# Altium footprint library zynq.PcbLib: 126 footprints (part 8 of 8)
Each footprint in its own frame and in the unit in brackets; x right, y up, seen from the top. Pads: shape width x height; smd on the part's side, far side on the other; paste and mask are expansions set on the pad; w line width, h text height; cw(c..) or ccw(c..) is an arc to the next point about the centre after c.
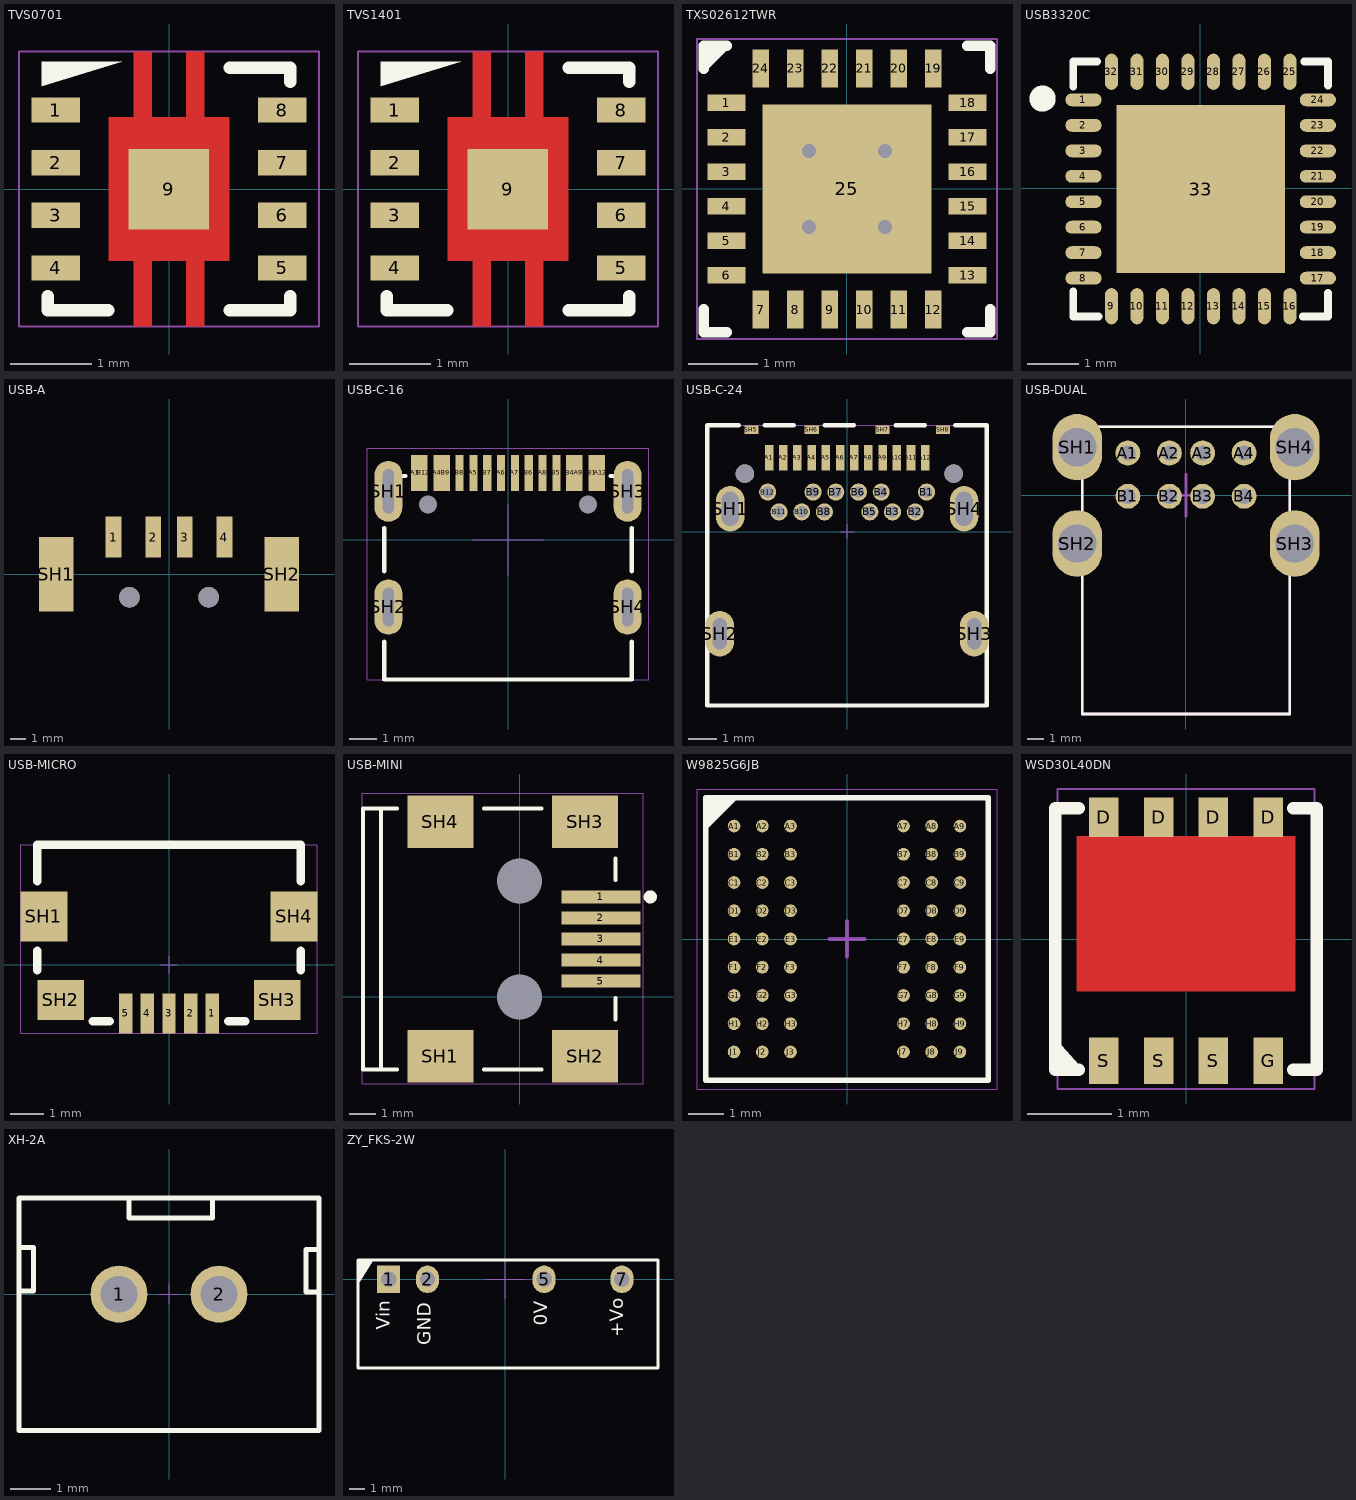
[diagram p7: the footprints below, top view; thin cyan lines are the x and y axes]

## TVS0701 [mm] "SON, 8-Leads, Body 3.00x3.00mm, Pitch 0.65mm, Thermal Pad 1.20x0.40mm, IPC High Density"
height 1
pads (9):
  rect 0.6x0.31 smd: 1(-1.4,0.975) 2(-1.4,0.325) 3(-1.4,-0.325) 4(-1.4,-0.975) 5(1.4,-0.975) 6(1.4,-0.325) 7(1.4,0.325) 8(1.4,0.975)
  rect 1x1 smd: 9(-0.003,-0.003)
Top Layer:
  rectangle: 0.21,0.875 0.44,1.7
  rectangle: -0.44,0.875 -0.21,1.7
  region: -0.21,-0.875 -0.44,-0.875 -0.44,-1.7 -0.21,-1.7
  region: 0.44,-0.875 0.21,-0.875 0.21,-1.7 0.44,-1.7
  rectangle: -0.75,-0.887 0.75,0.889
Top Overlay:
  region: -0.586,1.575 -1.574,1.575 -1.574,1.27
  lines w0.152: -1.5,-1.328 -1.5,-1.5 -0.75,-1.5 ; 0.75,-1.5 1.5,-1.5 1.5,-1.328 ; 0.75,1.5 1.5,1.5 1.5,1.328
Top Paste:
  rectangle: -0.67,-0.775 0.67,0.775
  rectangle: -0.44,0.975 -0.21,1.7
  rectangle: 0.21,0.975 0.44,1.7
  region: -0.21,-0.975 -0.44,-0.975 -0.44,-1.7 -0.21,-1.7
  region: 0.44,-0.975 0.21,-0.975 0.21,-1.7 0.44,-1.7
Mechanical 15:
  lines w0.025: -0.5,0 0.5,0 ; 0,-0.5 0,0.5 ; -1.855,-1.7 -1.855,1.7 1.855,1.7 1.855,-1.7 -1.855,-1.7

## TVS1401 [mm] "SON, 8-Leads, Body 3.00x3.00mm, Pitch 0.65mm, Thermal Pad 1.20x0.40mm, IPC High Density"
height 1
pads (9):
  rect 0.6x0.31 smd: 1(-1.4,0.975) 2(-1.4,0.325) 3(-1.4,-0.325) 4(-1.4,-0.975) 5(1.4,-0.975) 6(1.4,-0.325) 7(1.4,0.325) 8(1.4,0.975)
  rect 1x1 smd: 9(-0.003,-0.003)
Top Layer:
  rectangle: 0.21,0.875 0.44,1.7
  rectangle: -0.44,0.875 -0.21,1.7
  region: -0.21,-0.875 -0.44,-0.875 -0.44,-1.7 -0.21,-1.7
  region: 0.44,-0.875 0.21,-0.875 0.21,-1.7 0.44,-1.7
  rectangle: -0.75,-0.887 0.75,0.889
Top Overlay:
  region: -0.586,1.575 -1.574,1.575 -1.574,1.27
  lines w0.152: -1.5,-1.328 -1.5,-1.5 -0.75,-1.5 ; 0.75,-1.5 1.5,-1.5 1.5,-1.328 ; 0.75,1.5 1.5,1.5 1.5,1.328
Top Paste:
  rectangle: -0.67,-0.775 0.67,0.775
  rectangle: -0.44,0.975 -0.21,1.7
  rectangle: 0.21,0.975 0.44,1.7
  region: -0.21,-0.975 -0.44,-0.975 -0.44,-1.7 -0.21,-1.7
  region: 0.44,-0.975 0.21,-0.975 0.21,-1.7 0.44,-1.7
Mechanical 15:
  lines w0.025: -0.5,0 0.5,0 ; 0,-0.5 0,0.5 ; -1.855,-1.7 -1.855,1.7 1.855,1.7 1.855,-1.7 -1.855,-1.7

## TXS02612TWR [mm] "PQFN, 24-Leads, Body 4.00x4.00mm, Pitch 0.50mm, Thermal Pad 2.45x2.45mm, IPC High Density"
height 0.8
pads (25):
  rect 0.55x0.24 smd: 1(-1.75,1.25) 2(-1.75,0.75) 3(-1.75,0.25) 4(-1.75,-0.25) 5(-1.75,-0.75) 6(-1.75,-1.25) 13(1.75,-1.25) 14(1.75,-0.75) 15(1.75,-0.25) 16(1.75,0.25) 17(1.75,0.75) 18(1.75,1.25)
  rect 0.24x0.55 smd: 7(-1.25,-1.75) 8(-0.75,-1.75) 9(-0.25,-1.75) 10(0.25,-1.75) 11(0.75,-1.75) 12(1.25,-1.75) 19(1.25,1.75) 20(0.75,1.75) 21(0.25,1.75) 22(-0.25,1.75) 23(-0.75,1.75) 24(-1.25,1.75)
  rect 2.45x2.45 smd: 25(0,0)
via -0.55,0.55 diameter 0.45 hole 0.2
via 0.55,0.55 diameter 0.45 hole 0.2
via -0.55,-0.55 diameter 0.45 hole 0.2
via 0.55,-0.55 diameter 0.45 hole 0.2
Top Overlay:
  region: -1.679,2.075 -2.075,2.075 -2.075,1.679
  lines w0.152: -2.075,-1.746 -2.075,-2.075 -1.746,-2.075 ; -2.075,1.746 -2.075,2.075 -1.746,2.075 ; 1.746,-2.075 2.075,-2.075 2.075,-1.746 ; 1.746,2.075 2.075,2.075 2.075,1.746
Mechanical 15:
  lines w0.025: -0.5,0 0.5,0 ; 0,-0.5 0,0.5 ; -2.175,-2.175 -2.175,2.175 2.175,2.175 2.175,-2.175 -2.175,-2.175
3D body "txs02612rtw.STEP": height 0.81, standoff 0, extent -2.01,-2.007 2.01,2.013

## USB3320C [mil] "USB3320C"
pads (33):
  oval 28x10 smd: 1(-90.16,68.38) 2(-90.16,48.69) 3(-90.16,29.01) 4(-90.16,9.32) 5(-90.16,-10.36) 6(-90.16,-30.05) 7(-90.16,-49.73) 8(-90.16,-69.42) 17(90.94,-69.42) 18(90.94,-49.73) 19(90.94,-30.05) 20(90.94,-10.36) 21(90.94,9.32) 22(90.94,29.01) 23(90.94,48.69) 24(90.94,68.38)
  oval 10x28 smd: 9(-68.51,-91.07) 10(-48.82,-91.07) 11(-29.14,-91.07) 12(-9.45,-91.07) 13(10.23,-91.07) 14(29.92,-91.07) 15(49.6,-91.07) 16(69.29,-91.07) 25(69.29,90.03) 26(49.6,90.03) 27(29.92,90.03) 28(10.23,90.03) 29(-9.45,90.03) 30(-29.14,90.03) 31(-48.82,90.03) 32(-68.51,90.03)
  rect 129.93x129.93 smd: 33(0.39,-0.52)
Top Overlay:
  circle w10: c-121.74,69.33 r5.1
  lines w6: -98.04,-79.81 -98.04,-98.95 -78.54,-98.95 ; -98.04,78.68 -98.04,97.91 -79.64,97.91 ; 79.22,-98.95 98.82,-98.95 98.82,-80.91 ; 80.32,97.91 98.82,97.91 98.82,79.42

## USB-A [mm]
pads (8):
  rect 1x2.6 smd: 1(-3.5,2.35) 2(-1,2.35) 3(1,2.35) 4(3.5,2.35)
  rect 2.2x4.7 smd: SH1(-7.125,0) SH2(7.125,0)
  round 1.3 hole 1.3 unplated: ""(-2.5,-1.45) ""(2.5,-1.45)

## USB-C-16 [mm]
pads (26):
  rect 0.3x1.3 smd: A1(-3.35,2.425) A4(-2.55,2.425) A5(-1.25,2.425) A6(-0.25,2.425) A7(0.25,2.425) A8(1.25,2.425) A9(2.55,2.425) A12(3.35,2.425) B1(3.05,2.425) B4(2.25,2.425) B5(1.75,2.425) B6(0.75,2.425) B7(-0.75,2.425) B8(-1.75,2.425) B9(-2.25,2.425) B12(-3.05,2.425)
  oval 1x2.2 hole 0.4 slot 1.6 at 90 deg: SH1(-4.32,1.755) SH3(4.32,1.755)
  oval 1x2 hole 0.4 slot 1.4 at 90 deg: SH2(-4.32,-2.425) SH4(4.32,-2.425)
  oval 1x1.85 on Top Paste: ""(-4.32,-2.425) ""(4.32,-2.425)
  oval 1x2.2 on Top Paste: ""(-4.318,1.778) ""(4.318,1.778)
  round 0.6 hole 0.65 unplated: ""(-2.89,1.275) ""(2.89,1.275)
Top Overlay:
  lines w0.152: -4.47,-3.685 -4.47,-5.045 4.47,-5.045 4.47,-3.685 ; -4.47,-1.134 -4.47,0.434 ; -4.47,2.305 -3.699,2.305 ; 3.699,2.305 4.47,2.305 ; 4.47,-1.134 4.47,0.434
Mechanical 15:
  lines w0.025: -1.27,0 1.27,0 ; 0,-1.27 0,1.27 ; -5.08,-5.045 -5.08,3.302 5.08,3.302 5.08,-5.045 -5.08,-5.045

## USB-C-24 [mm]
pads (50):
  rect 0.3x0.9 smd: A1(-2.745,2.605) A2(-2.245,2.605) A3(-1.745,2.605) A4(-1.245,2.605) A5(-0.745,2.605) A6(-0.245,2.605) A7(0.255,2.605) A8(0.755,2.605) A9(1.255,2.605) A10(1.755,2.605) A11(2.255,2.605) A12(2.755,2.605)
  round 0.6 hole 0.4: B1(2.805,1.395) B2(2.405,0.695) B3(1.605,0.695) B4(1.205,1.395) B5(0.805,0.695) B6(0.405,1.395) B7(-0.395,1.395) B8(-0.795,0.695) B9(-1.195,1.395) B10(-1.595,0.695) B11(-2.395,0.695) B12(-2.795,1.395)
  oval 1x1.6 hole 0.6 slot 1.2 at 90 deg: SH1(-4.115,0.805)
  oval 1x1.6 hole 0.5 slot 1.1 at 90 deg: SH2(-4.485,-3.595) SH3(4.485,-3.595)
  oval 1x1.6 hole 0.6 slot 1.199 at 90 deg: SH4(4.125,0.805)
  rect 0.5x0.3 smd: SH5(-3.365,3.595) SH6(-1.245,3.595) SH7(1.255,3.595) SH8(3.385,3.595)
  oval 1x1.6 on Top Paste: ""(-4.485,-3.595) ""(-4.115,0.805) ""(4.125,0.805) ""(4.485,-3.595)
  round 0.65 hole 0.65 unplated: ""(-3.595,2.045) ""(3.755,2.045)
  round 0.6 on Top Paste: ""(-2.795,1.395) ""(-2.395,0.695) ""(-1.595,0.695) ""(-1.195,1.395) ""(-0.795,0.695) ""(-0.395,1.395) ""(0.405,1.395) ""(0.805,0.695) ""(1.205,1.395) ""(1.605,0.695) ""(2.405,0.695) ""(2.805,1.395)
Top Overlay:
  lines w0.152: -3.81,3.745 -4.925,3.745 -4.925,-6.125 4.925,-6.125 4.925,3.745 3.81,3.745 ; -2.899,3.745 -1.873,3.745 ; -0.779,3.745 0.247,3.745 ; 1.721,3.745 2.747,3.745
Mechanical 15:
  lines w0.025: -0.254,0 0.254,0 ; 0,-0.254 0,0.254 ; -4.925,-6.125 4.925,-6.125 4.925,3.745 -4.925,3.745 -4.925,-6.125

## USB-DUAL [mm]
pads (12):
  round 1.5 hole 0.92: A1(-3.5,2.55) A2(-1,2.55) A3(1,2.55) A4(3.5,2.55) B1(-3.5,-0.05) B2(-1,-0.05) B3(1,-0.05) B4(3.5,-0.05)
  oval 3x4 hole 2.3: SH1(-6.55,2.9) SH2(-6.55,-2.9) SH3(6.55,-2.9) SH4(6.55,2.9)
Top Overlay:
  lines w0.152: -6.25,-13.16 6.25,-13.16 6.25,4.14 -6.25,4.14 -6.25,-13.16
Mechanical 15:
  lines w0.152: -1.27,0 1.27,0 ; 0,-1.27 0,1.27 ; -6.25,-13.16 6.25,-13.16 6.25,4.14 -6.25,4.14 -6.25,-13.16

## USB-MICRO [mm]
pads (9):
  rect 0.4x1.2 smd: 1(1.3,-1.455) 2(0.65,-1.455) 3(0,-1.455) 4(-0.65,-1.455) 5(-1.3,-1.455)
  rect 1.4x1.5 smd: SH1(-3.75,1.455) SH4(3.75,1.455)
  rect 1.4x1.2 smd: SH2(-3.25,-1.055) SH3(3.25,-1.055)
Top Overlay:
  lines w0.254: -3.952,-0.16 -3.952,0.422 ; -3.952,2.51 -3.952,3.604 3.952,3.604 3.952,2.51 ; -2.282,-1.7 -1.772,-1.7 ; 1.772,-1.7 2.282,-1.7 ; 3.952,-0.16 3.952,0.422
Mechanical 15:
  lines w0.025: -0.254,0 0.254,0 ; 0,-0.254 0,0.254 ; -4.45,-2.055 -4.45,3.604 4.45,3.604 4.45,-2.055 -4.45,-2.055

## USB-MINI [mm]
pads (11):
  rect 3x0.5 smd: 1(3.093,3.8) 2(3.093,3) 3(3.093,2.2) 4(3.093,1.4) 5(3.093,0.6)
  rect 2.5x2 smd: SH1(-3.007,-2.25) SH2(2.493,-2.25) SH3(2.493,6.65) SH4(-3.007,6.65)
  round 0 hole 1.7 unplated: ""(0,0) ""(0,4.4)
Top Overlay:
  circle w0.25: c4.968,3.8 r0.125
  lines w0.152: -5.257,-2.75 -5.257,7.15 ; -4.657,-2.75 -5.957,-2.75 -5.957,7.15 -4.657,7.15 ; -1.358,-2.75 0.843,-2.75 ; -1.358,7.15 0.843,7.15 ; 3.642,-0.85 3.642,-0.05 ; 3.642,4.45 3.642,5.25
Mechanical 15:
  lines w0.025: -5.969,-3.302 -5.969,7.747 4.699,7.747 4.699,-3.302 -5.969,-3.302
3D body "usb-mini.STEP": height 4, standoff -0.85, extent -5.842,-2.75 3.358,7.15

## W9825G6JB [mm] "BGA, 81-Leads, Body 8.00x8.00mmx1.20mm, Pitch 0.80mm"
height 1.2
pads (54):
  round 0.36 smd: A1(-3.2,3.2) A2(-2.4,3.2) A3(-1.6,3.2) A7(1.6,3.2) A8(2.4,3.2) A9(3.2,3.2) B1(-3.2,2.4) B2(-2.4,2.4) B3(-1.6,2.4) B7(1.6,2.4) B8(2.4,2.4) B9(3.2,2.4) C1(-3.2,1.6) C2(-2.4,1.6) C3(-1.6,1.6) C7(1.6,1.6) C8(2.4,1.6) C9(3.2,1.6) D1(-3.2,0.8) D2(-2.4,0.8) D3(-1.6,0.8) D7(1.6,0.8) D8(2.4,0.8) D9(3.2,0.8) E1(-3.2,0) E2(-2.4,0) E3(-1.6,0) E7(1.6,0) E8(2.4,0) E9(3.2,0) F1(-3.2,-0.8) F2(-2.4,-0.8) F3(-1.6,-0.8) F7(1.6,-0.8) F8(2.4,-0.8) F9(3.2,-0.8) G1(-3.2,-1.6) G2(-2.4,-1.6) G3(-1.6,-1.6) G7(1.6,-1.6) G8(2.4,-1.6) G9(3.2,-1.6) H1(-3.2,-2.4) H2(-2.4,-2.4) H3(-1.6,-2.4) H7(1.6,-2.4) H8(2.4,-2.4) H9(3.2,-2.4) J1(-3.2,-3.2) J2(-2.4,-3.2) J3(-1.6,-3.2) J7(1.6,-3.2) J8(2.4,-3.2) J9(3.2,-3.2)
Top Overlay:
  region: -3.186,4 -4,3.186 -4,4
  lines w0.152: -4,3.186 -3.186,4 ; -4,-4 4,-4 4,4 -4,4 -4,-4
Mechanical 15:
  lines w0.025: -4.25,-4.25 4.25,-4.25 4.25,4.25 -4.25,4.25 -4.25,-4.25
  lines w0.1: -0.5,0 0.5,0 ; 0,-0.5 0,0.5

## WSD30L40DN [mm]
pads (8):
  rect 0.35x0.47 smd: D(-0.975,1.445) D(-0.325,1.445) D(0.325,1.445) D(0.975,1.445)
  rect 0.35x0.55 smd: G(0.975,-1.445) S(-0.975,-1.445) S(-0.325,-1.445) S(0.325,-1.445)
Top Layer:
  rectangle: -1.3,-0.62 1.3,1.22
Top Overlay:
  region: -1.215,-1.55 -1.524,-1.55 -1.524,-1.206
  lines w0.152: -1.274,-1.55 -1.55,-1.55 -1.55,1.55 -1.274,1.55 ; 1.274,-1.55 1.55,-1.55 1.55,1.55 1.274,1.55
Mechanical 15:
  lines w0.025: -0.254,0 0.254,0 ; 0,-0.254 0,0.254 ; -1.524,-1.778 1.524,-1.778 1.524,1.778 -1.524,1.778 -1.524,-1.778

## XH-2A [mil] "XH2.54接线端子2P"
pads (2):
  round 56 hole 36: 1(-49.22,0) 2(49.22,0)
Top Overlay:
  lines w5: -147.22,3 -133.22,3 -133.22,46 -146.22,46 ; -39.22,93 -39.22,75 42.78,75 42.78,94 ; 145.78,2 134.78,2 134.78,44 146.78,44 ; -147.65,-134.17 147.63,-134.17 147.63,94.49 -147.65,94.49 -147.65,-134.17
Mechanical 15:
  lines w1: -10,0 10,0 ; 0,-10 0,10 ; -147.31,-133.09 147.31,-133.09 147.31,95 -147.31,95 -147.31,-133.09
3D body "sh2.5-2pin.STEP": height 275.59, standoff -133.86, extent -145.67,-134.17 145.67,94.17

## ZY_FKS-2W [mm] "定压输入隔离非稳压单输出"
height 10
pads (4):
  rect 1.5x1.8 hole 1: 1(-7.62,0)
  oval 1.5x1.8 hole 1: 2(-5.08,0) 5(2.54,0) 7(7.62,0)
Top Overlay:
  region: -9.62,-0.336 -9.62,1.25 -8.626,1.25
  lines w0.2: -9.62,-5.8 -9.62,1.25 9.98,1.25 9.98,-5.8 -9.62,-5.8
  text "+Vo" at 8.001,-3.776 h1.52
  text "0V" at 3.048,-3.036 h1.52
  text "GND" at -4.572,-4.318 h1.52
  text "Vin" at -7.239,-3.308 h1.52
Bottom Overlay:
  text "+Vo" at 7.991,-1.44 h1.52
  text "0V" at 3.038,-1.44 h1.52
  text "GND" at -4.582,-1.44 h1.52
  text "Vin" at -7.249,-1.442 h1.52
Mechanical 15:
  lines w0.025: -1.27,0 1.27,0 ; 0,-1.27 0,1.27 ; -9.62,-5.8 -9.62,1.25 9.98,1.25 9.98,-5.8 -9.62,-5.8